# EAGLE library part M12 (library dr-library)
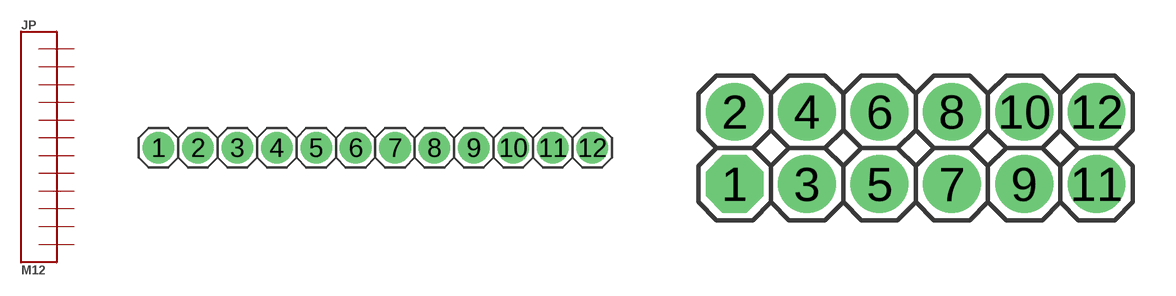
[diagram p18: symbol with the pads of 1X12; footprints 1X12, 2X06]

Designator prefix JP

## M12  [1X12]
1  1
2  2
3  3
4  4
5  5
6  6
7  7
8  8
9  9
10  10
11  11
12  12

## M122ROWS  [2X06]
Pads as for 1X12

## Footprint 1X12 (pad centres in mm)
PIN HEADER
drill 1.016 pad 2.032: 1 -1.27,0; 2 1.27,0; 3 3.81,0; 4 6.35,0; 5 8.89,0; 6 11.43,0; 7 13.97,0; 8 16.51,0; 9 19.05,0; 10 21.59,0; 11 24.13,0; 12 26.67,0

## Footprint 2X06 (pad centres in mm)
PIN HEADER
drill 1.016 pad 2.032 octagon: 1 -1.27,-2.54
drill 1.016 pad 2.032: 2 -1.27,0; 3 1.27,-2.54; 4 1.27,0; 5 3.81,-2.54; 6 3.81,0; 7 6.35,-2.54; 8 6.35,0; 9 8.89,-2.54; 10 8.89,0; 11 11.43,-2.54; 12 11.43,0